# Altium footprint library InverterPCBLib.PcbLib: 8 footprints
Each footprint in its own frame and in the unit in brackets; x right, y up, seen from the top. Pads: shape width x height; smd on the part's side, far side on the other; paste and mask are expansions set on the pad; w line width, h text height; cw(c..) or ccw(c..) is an arc to the next point about the centre after c.
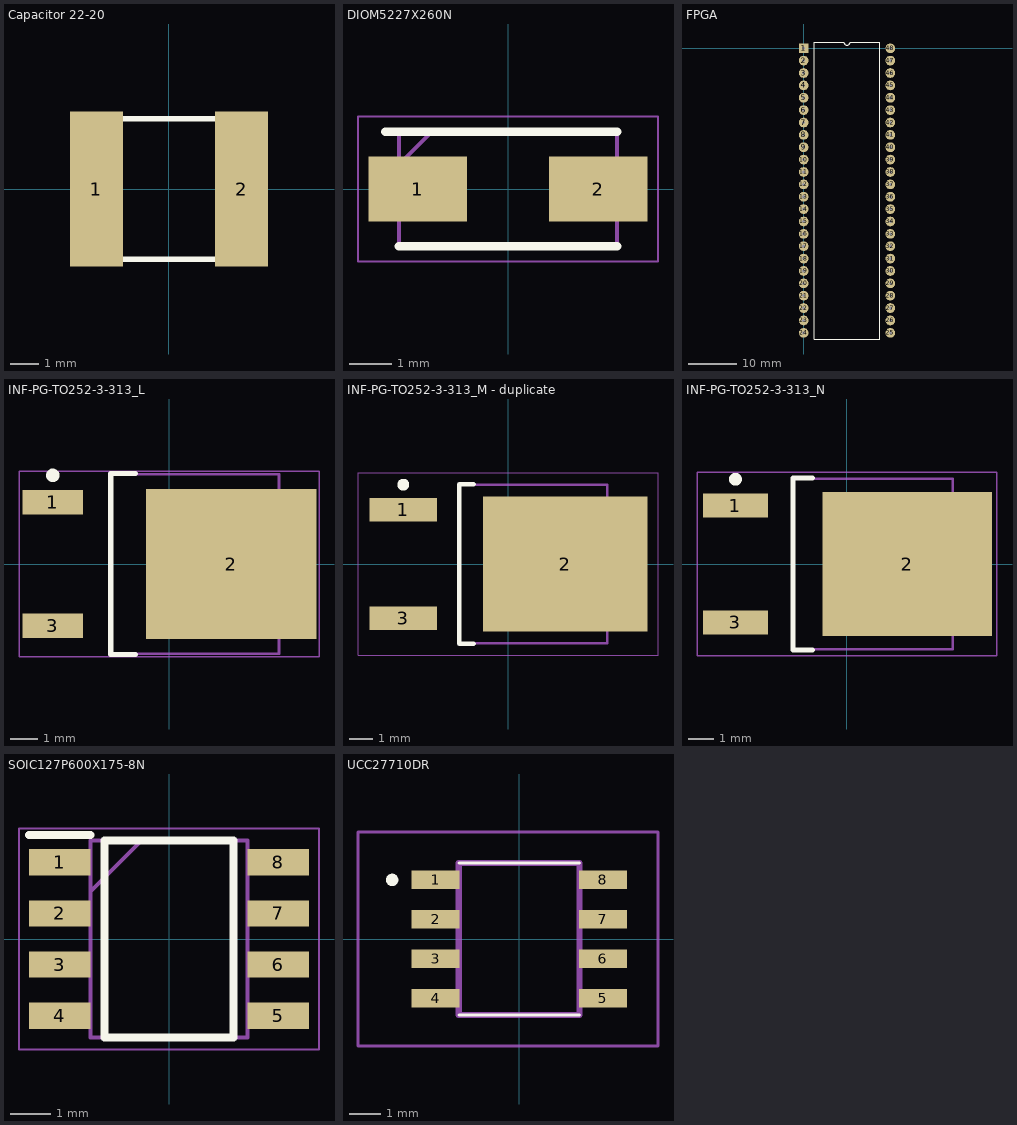
[diagram p0: the footprints below, top view; thin cyan lines are the x and y axes]

## Capacitor 22-20 [mm]
pads (2):
  rect 1.87x5.5 smd: 1(-2.575,0) 2(2.575,0)
Top Overlay:
  lines w0.2: -3.26,-2.5 3.26,-2.5 3.26,2.5 -3.26,2.5 -3.26,0 -3.26,-2.5

## DIOM5227X260N [mm]
pads (2):
  rect 2.35x1.55 smd: 1(-2.15,0) 2(2.15,0)
Top Overlay:
  lines w0.2: -2.925,1.362 2.6,1.362 ; -2.6,-1.362 2.6,-1.362
Mechanical 13:
  lines w0.1: -2.6,0.588 -1.825,1.362 ; -2.6,-1.362 2.6,-1.362 2.6,1.362 -2.6,1.362 -2.6,-1.362
Mechanical 15:
  lines w0.05: -3.575,-1.725 3.575,-1.725 3.575,1.725 -3.575,1.725 -3.575,-1.725
3D body "ES1G.stp": height 2.6, standoff 0, extent -2.6,-1.362 2.6,1.362

## FPGA [mm]
pads (48):
  rect 2x2 hole 0.635: 1(0,0)
  round 2 hole 0.635: 2(0,-2.54) 3(0,-5.08) 4(0,-7.62) 5(0,-10.16) 6(0,-12.7) 7(0,-15.24) 8(0,-17.78) 9(0,-20.32) 10(0,-22.86) 11(0,-25.4) 12(0,-27.94) 13(0,-30.48) 14(0,-33.02) 15(0,-35.56) 16(0,-38.1) 17(0,-40.64) 18(0,-43.18) 19(0,-45.72) 20(0,-48.26) 21(0,-50.8) 22(0,-53.34) 23(0,-55.88) 24(0,-58.42) 25(17.78,-58.42) 26(17.78,-55.88) 27(17.78,-53.34) 28(17.78,-50.8) 29(17.78,-48.26) 30(17.78,-45.72) 31(17.78,-43.18) 32(17.78,-40.64) 33(17.78,-38.1) 34(17.78,-35.56) 35(17.78,-33.02) 36(17.78,-30.48) 37(17.78,-27.94) 38(17.78,-25.4) 39(17.78,-22.86) 40(17.78,-20.32) 41(17.78,-17.78) 42(17.78,-15.24) 43(17.78,-12.7) 44(17.78,-10.16) 45(17.78,-7.62) 46(17.78,-5.08) 47(17.78,-2.54) 48(17.78,0)
Top Overlay:
  lines w0.254: 2.159,-59.69 15.621,-59.69 15.621,1.27 9.525,1.27 cw(c8.89,1.27) 8.255,1.27 2.159,1.27 2.159,-59.69

## INF-PG-TO252-3-313_L [mm] "DPAK, 3-Leads, Body 6.5x6.12mm, Pitch 2.28mm, IPC High Density"
height 2.35
pads (3):
  rect 2.25x0.9 smd: 1(-4.3,2.28) 3(-4.3,-2.28)
  rect 6.3x5.55 smd: 2(2.3,0)
Top Overlay:
  circle w0.25: c-4.3,3.28 r0.125
  lines w0.2: -1.25,-3.35 -2.15,-3.35 -2.15,3.35 -1.25,3.35
Mechanical 13:
  lines w0.1: -2.15,-3.325 -2.15,3.325 4.07,3.325 4.07,-3.325 -2.15,-3.325
Mechanical 15:
  lines w0.05: -5.55,-3.425 -5.55,3.425 5.55,3.425 5.55,-3.425 -5.55,-3.425
  lines w0.1: -0.5,0 0.5,0 ; 0,-0.5 0,0.5
3D body: height 2.35, standoff 0, extent -2.15,-3.325 4.07,3.325

## INF-PG-TO252-3-313_M - duplicate [mm] "DPAK, 3-Leads, Body 6.5x6.12mm, Pitch 2.28mm, IPC Low Density"
height 2.35
pads (3):
  rect 2.85x1 smd: 1(-4.4,2.28) 3(-4.4,-2.28)
  rect 6.9x5.65 smd: 2(2.4,0)
Top Overlay:
  circle w0.25: c-4.4,3.33 r0.125
  lines w0.2: -1.45,-3.35 -2.05,-3.35 -2.05,3.35 -1.45,3.35
Mechanical 13:
  lines w0.1: -2.05,-3.325 -2.05,3.325 4.17,3.325 4.17,-3.325 -2.05,-3.325
Mechanical 15:
  lines w0.05: -6.3,-3.825 -6.3,3.825 6.3,3.825 6.3,-3.825 -6.3,-3.825
  lines w0.1: -0.5,0 0.5,0 ; 0,-0.5 0,0.5
3D body: height 2.35, standoff 0, extent -2.05,-3.325 4.17,3.325

## INF-PG-TO252-3-313_N [mm] "DPAK, 3-Leads, Body 6.5x6.12mm, Pitch 2.28mm, IPC Medium Density"
height 2.35
pads (3):
  rect 2.55x0.95 smd: 1(-4.35,2.28) 3(-4.35,-2.28)
  rect 6.6x5.6 smd: 2(2.35,0)
Top Overlay:
  circle w0.25: c-4.35,3.305 r0.125
  lines w0.2: -1.35,-3.35 -2.1,-3.35 -2.1,3.35 -1.35,3.35
Mechanical 13:
  lines w0.1: -2.1,-3.325 -2.1,3.325 4.12,3.325 4.12,-3.325 -2.1,-3.325
Mechanical 15:
  lines w0.05: -5.85,-3.575 -5.85,3.575 5.85,3.575 5.85,-3.575 -5.85,-3.575
  lines w0.1: -0.5,0 0.5,0 ; 0,-0.5 0,0.5
3D body: height 2.35, standoff 0, extent -2.1,-3.325 4.12,3.325

## SOIC127P600X175-8N [mm]
pads (8):
  rect 1.525x0.65 smd: 1(-2.712,1.905) 2(-2.712,0.635) 3(-2.712,-0.635) 4(-2.712,-1.905) 5(2.712,-1.905) 6(2.712,-0.635) 7(2.712,0.635) 8(2.712,1.905)
Top Overlay:
  lines w0.2: -3.475,2.58 -1.95,2.58 ; -1.6,-2.45 -1.6,2.45 1.6,2.45 1.6,-2.45 -1.6,-2.45
Mechanical 13:
  lines w0.1: -1.95,1.18 -0.68,2.45 ; -1.95,-2.45 -1.95,2.45 1.95,2.45 1.95,-2.45 -1.95,-2.45
Mechanical 15:
  lines w0.05: -3.725,-2.75 -3.725,2.75 3.725,2.75 3.725,-2.75 -3.725,-2.75
3D body "NE555DR.stp": height 1.75, standoff 0, extent -3,-2.45 3,2.45

## UCC27710DR [mm]
pads (8):
  rect 1.55x0.6 smd: 1(-2.7,1.905) 2(-2.7,0.635) 3(-2.7,-0.635) 4(-2.7,-1.905) 5(2.7,-1.905) 6(2.7,-0.635) 7(2.7,0.635) 8(2.7,1.905)
Top Overlay:
  lines w0.1: -1.948,-2.453 1.947,-2.453 ; -1.948,2.453 1.947,2.453
  lines w0.2: -4.2,1.905 cw(c-4.1,1.905) -4,1.905 cw(c-4.1,1.905) -4.2,1.905
Mechanical 13:
  lines w0.2: -1.948,-2.453 1.947,-2.453 1.947,2.453 -1.948,2.453 -1.948,-2.453
Mechanical 15:
  lines w0.1: -5.2,-3.453 4.475,-3.453 4.475,3.453 -5.2,3.453 -5.2,-3.453
3D body "UCC27710DR.stp": height 1.63, standoff 0, extent -3.011,-2.451 3.011,2.451